# Altium footprint library DC-DC Module.PcbLib: 2 footprints
Each footprint in its own frame and in the unit in brackets; x right, y up, seen from the top. Pads: shape width x height; smd on the part's side, far side on the other; paste and mask are expansions set on the pad; w line width, h text height; cw(c..) or ccw(c..) is an arc to the next point about the centre after c.
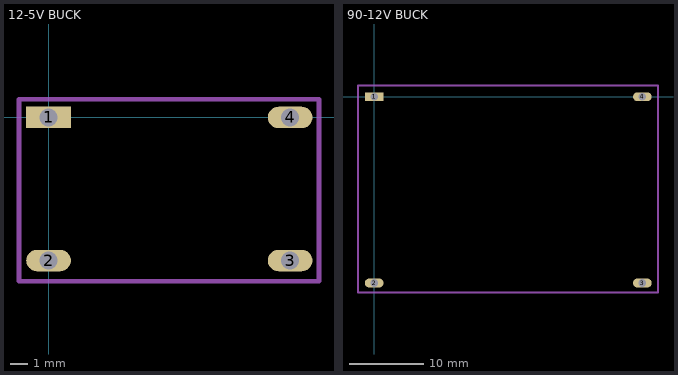
[diagram p0: the footprints below, top view; thin cyan lines are the x and y axes]

## 12-5V BUCK [mm]
pads (4):
  rect 2.5x1.2 hole 1: 1(0,0)
  oval 2.5x1.2 hole 1: 2(0,-8) 3(13.5,-8) 4(13.5,0)
Mechanical 1:
  lines w0.254: -1.651,-9.144 15.113,-9.144 15.113,1.016 -1.651,1.016 -1.651,-9.144

## 90-12V BUCK [mm]
pads (4):
  rect 2.5x1.2 hole 1.016: 1(0,0)
  oval 2.5x1.2 hole 1.016: 2(0,-25) 3(36,-25) 4(36,0)
Mechanical 1:
  lines w0.254: -2.159,-26.289 38.1,-26.289 38.1,1.524 -2.159,1.524 -2.159,-26.289